# EAGLE library part CRJ044-3-TH (library 3D_MIG_Controller)
Modular Jack
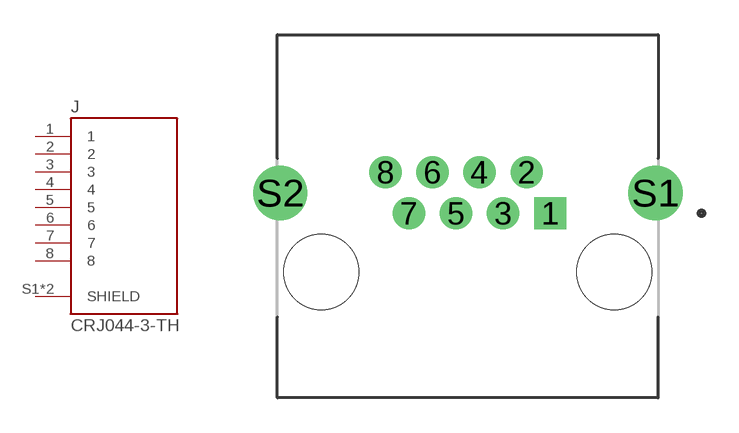
[diagram p78: symbol with the pads of CUI_CRJ044-3-TH; footprint CUI_CRJ044-3-TH]

Designator prefix J

## CRJ044-3-TH (MAXIMUM_PACKAGE_HEIGHT: 13.46 mm; PARTREV: 1.0; STANDARD: Manufacturer Recommendations)  [CUI_CRJ044-3-TH]
1  1  pas
2  2  pas
3  3  pas
4  4  pas
5  5  pas
6  6  pas
7  7  pas
8  8  pas
S1  SHIELD  pas
S2  SHIELD  pas

## Footprint CUI_CRJ044-3-TH (pad centres in mm)
drill 0.89 square: 1 3.57,2.54
drill 0.89: 2 2.55,4.32; 3 1.53,2.54; 4 0.51,4.32; 5 -0.51,2.54; 6 -1.53,4.32; 7 -2.55,2.54; 8 -3.57,4.32
drill 1.57: S1 8.13,3.43; S2 -8.13,3.43
hole 3.25 at -6.35,0
hole 3.25 at 6.35,0